# EAGLE library part HEXABIT_?_NO_P3 (library hexabitz_connectors)
Hexabitz Hexagon Module Connector Hexagon side length = 17.32mm. The following ports are removed: P3
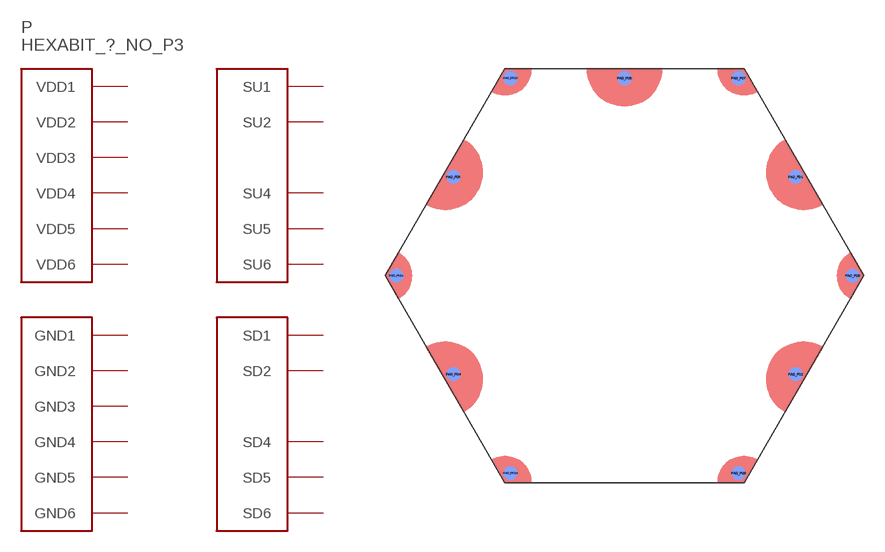
[diagram p19: symbol with the pads of HEXABIT_17.32_NO_P3; footprint HEXABIT_17.32_NO_P3]

Designator prefix P

## HEXABIT_17.32_NO_P3  [HEXABIT_17.32_NO_P3]
PAD_PD1  SD1
PAD_PD2  SD2
PAD_PD4  SD4
PAD_PD5  SD5
PAD_PD6  SD6
PAD_PD7  GND1  pwr
PAD_PD8  GND2  pwr
PAD_PD9  GND3  pwr
PAD_PD10  GND4  pwr
PAD_PD11  GND5  pwr
PAD_PD12  GND6  pwr
PAD_PU1  SU1
PAD_PU2  SU2
PAD_PU4  SU4
PAD_PU5  SU5
PAD_PU6  SU6
PAD_PU7  VDD1  pwr
PAD_PU8  VDD2  pwr
PAD_PU9  VDD3  pwr
PAD_PU10  VDD4  pwr
PAD_PU11  VDD5  pwr
PAD_PU12  VDD6  pwr

## Footprint HEXABIT_17.32_NO_P3 (pad centres in mm)
smd 1 x 1 bottom: PAD_PD1 12.39,7.15; PAD_PD2 12.39,-7.15; PAD_PD4 -12.39,-7.15; PAD_PD5 -12.39,7.15; PAD_PD6 0,14.31; PAD_PD7 8.26,14.31; PAD_PD8 16.52,0; PAD_PD9 8.26,-14.31; PAD_PD10 -8.26,-14.31; PAD_PD11 -16.52,0; PAD_PD12 -8.26,14.31
smd 1 x 1: PAD_PU1 12.39,7.15; PAD_PU2 12.39,-7.15; PAD_PU4 -12.39,-7.15; PAD_PU5 -12.39,7.15; PAD_PU6 0,14.31; PAD_PU7 8.26,14.31; PAD_PU8 16.52,0; PAD_PU9 8.26,-14.31; PAD_PU10 -8.26,-14.31; PAD_PU11 -16.52,0; PAD_PU12 -8.26,14.31